# EAGLE library part LOGIC,DRIVER:EL7156(INTERSIL,FETDRIVER) (library QuantumOptics)
FET Driver EL1756, Intersil, 3.5A, 40MHz, 4.5-16V. http://www.intersil.com/cda/deviceinfo/0,1477,EL7156,0.html
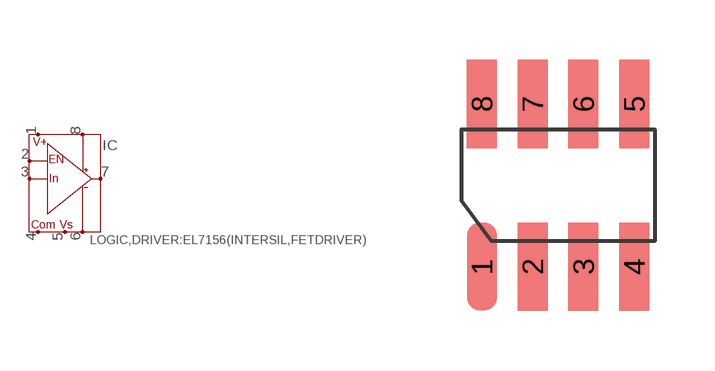
[diagram p117: symbol with the pads of SOIC-8; footprint SOIC-8]

Designator prefix IC

## LOGIC,DRIVER:EL7156(INTERSIL,FETDRIVER)CS(Z)  [SOIC-8]
1  V+
2  OE  in
3  IN  in
4  COM
5  VS-
6  VL
7  OUT  out
8  HV

## Footprint SOIC-8 (pad centres in mm)
SOIC-8 (AKA SO-8), pads on 0.050" grid.
smd 0.75 x 2.2: 1 -1.905,-2.032; 2 -0.635,-2.032; 3 0.635,-2.032; 4 1.905,-2.032; 5 1.905,2.032; 6 0.635,2.032; 7 -0.635,2.032; 8 -1.905,2.032